# Altium schematic symbol library Dual_NPN_126.SchLib: 1 symbol
Pins are listed as number, name and electrical type; pins without a type are passive.

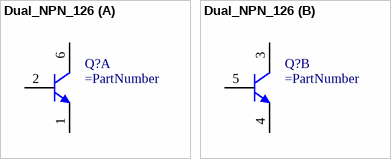
[diagram p0: symbol Dual_NPN_126]

## Dual_NPN_126
designator Q?
part A pins: 1 E, 2 B, 6 C
part B pins: 3 C, 4 E, 5 B